# EAGLE library part STM32G474MCT6 (library Bauteile)
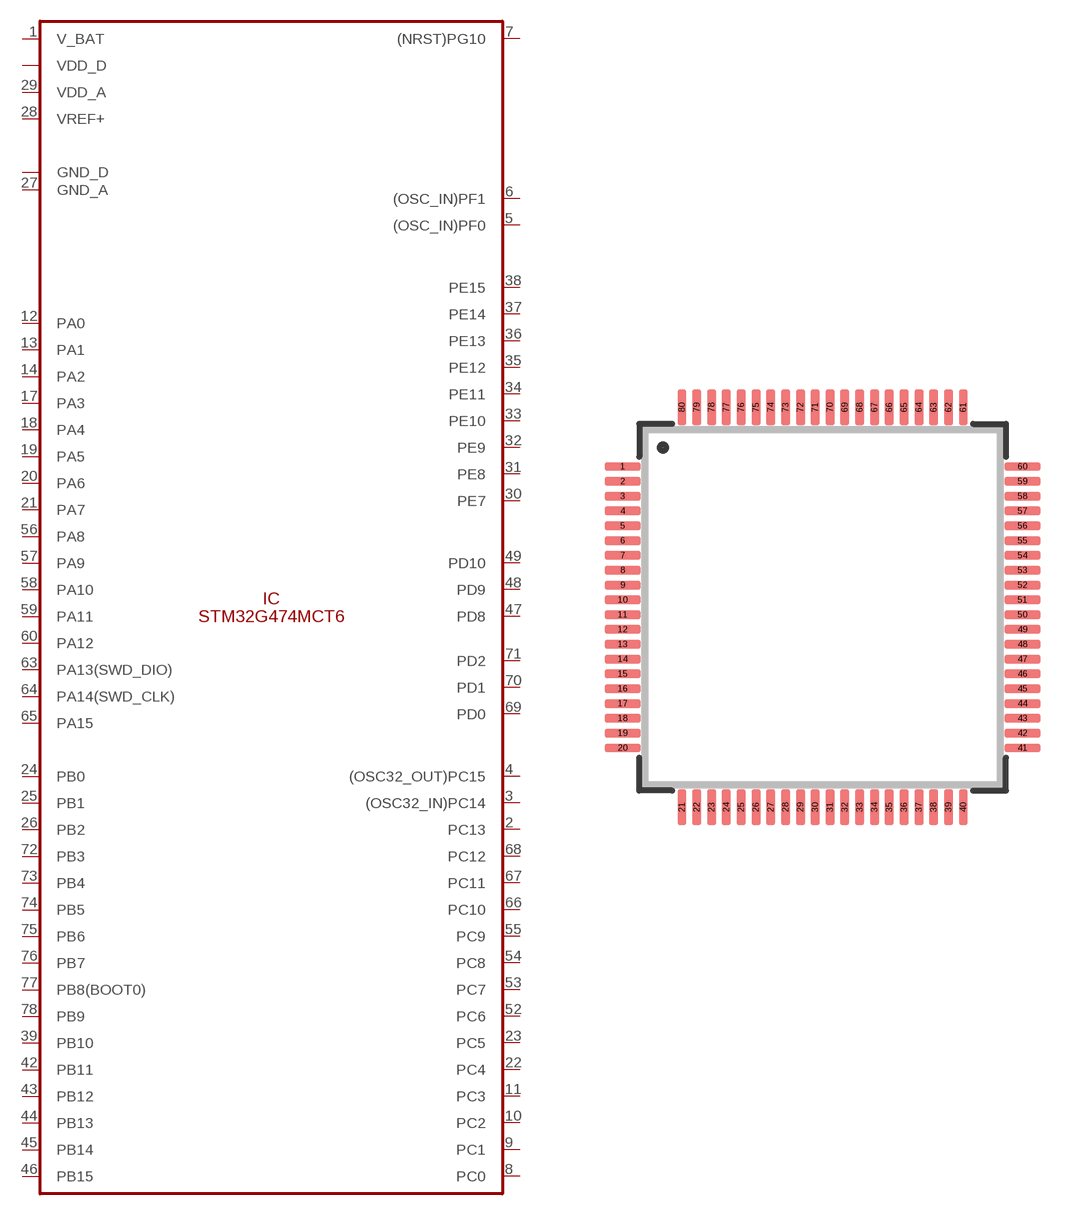
[diagram p208: symbol with the pads of LQFP80-0.5; footprint LQFP80-0.5]

Designator prefix IC

## STM32G474MCT6  [LQFP80-0.5]
1  V_BAT
2  PC13
3  (OSC32_IN)PC14
4  (OSC32_OUT)PC15
5  (OSC_IN)PF0
6  (OSC_IN)PF1
7  (NRST)PG10
8  PC0
9  PC1
10  PC2
11  PC3
12  PA0
13  PA1
14  PA2
15  GND_D
16  VDD_D
17  PA3
18  PA4
19  PA5
20  PA6
21  PA7
22  PC4
23  PC5
24  PB0
25  PB1
26  PB2
27  GND_A
28  VREF+
29  VDD_A
30  PE7
31  PE8
32  PE9
33  PE10
34  PE11
35  PE12
36  PE13
37  PE14
38  PE15
39  PB10
40  GND_D
41  VDD_D
42  PB11
43  PB12
44  PB13
45  PB14
46  PB15
47  PD8
48  PD9
49  PD10
50  GND_D
51  VDD_D
52  PC6
53  PC7
54  PC8
55  PC9
56  PA8
57  PA9
58  PA10
59  PA11
60  PA12
61  GND_D
62  VDD_D
63  PA13(SWD_DIO)
64  PA14(SWD_CLK)
65  PA15
66  PC10
67  PC11
68  PC12
69  PD0
70  PD1
71  PD2
72  PB3
73  PB4
74  PB5
75  PB6
76  PB7
77  PB8(BOOT0)
78  PB9
79  GND_D
80  VDD_D

## Footprint LQFP80-0.5 (pad centres in mm)
smd 1.2 x 0.3: 1 -6.75,4.75; 2 -6.75,4.25; 3 -6.75,3.75; 4 -6.75,3.25; 5 -6.75,2.75; 6 -6.75,2.25; 7 -6.75,1.75; 8 -6.75,1.25; 9 -6.75,0.75; 10 -6.75,0.25; 11 -6.75,-0.25; 12 -6.75,-0.75; 13 -6.75,-1.25; 14 -6.75,-1.75; 15 -6.75,-2.25; 16 -6.75,-2.75; 17 -6.75,-3.25; 18 -6.75,-3.75; 19 -6.75,-4.25; 20 -6.75,-4.75; 41 6.75,-4.75; 42 6.75,-4.25; 43 6.75,-3.75; 44 6.75,-3.25; 45 6.75,-2.75; 46 6.75,-2.25; 47 6.75,-1.75; 48 6.75,-1.25; 49 6.75,-0.75; 50 6.75,-0.25; 51 6.75,0.25; 52 6.75,0.75; 53 6.75,1.25; 54 6.75,1.75; 55 6.75,2.25; 56 6.75,2.75; 57 6.75,3.25; 58 6.75,3.75; 59 6.75,4.25; 60 6.75,4.75
smd 0.3 x 1.2: 21 -4.75,-6.75; 22 -4.25,-6.75; 23 -3.75,-6.75; 24 -3.25,-6.75; 25 -2.75,-6.75; 26 -2.25,-6.75; 27 -1.75,-6.75; 28 -1.25,-6.75; 29 -0.75,-6.75; 30 -0.25,-6.75; 31 0.25,-6.75; 32 0.75,-6.75; 33 1.25,-6.75; 34 1.75,-6.75; 35 2.25,-6.75; 36 2.75,-6.75; 37 3.25,-6.75; 38 3.75,-6.75; 39 4.25,-6.75; 40 4.75,-6.75; 61 4.75,6.75; 62 4.25,6.75; 63 3.75,6.75; 64 3.25,6.75; 65 2.75,6.75; 66 2.25,6.75; 67 1.75,6.75; 68 1.25,6.75; 69 0.75,6.75; 70 0.25,6.75; 71 -0.25,6.75; 72 -0.75,6.75; 73 -1.25,6.75; 74 -1.75,6.75; 75 -2.25,6.75; 76 -2.75,6.75; 77 -3.25,6.75; 78 -3.75,6.75; 79 -4.25,6.75; 80 -4.75,6.75